# Altium footprint library WOB.PcbLib: 1 footprints
Each footprint in its own frame and in the unit in brackets; x right, y up, seen from the top. Pads: shape width x height; smd on the part's side, far side on the other; paste and mask are expansions set on the pad; w line width, h text height; cw(c..) or ccw(c..) is an arc to the next point about the centre after c.
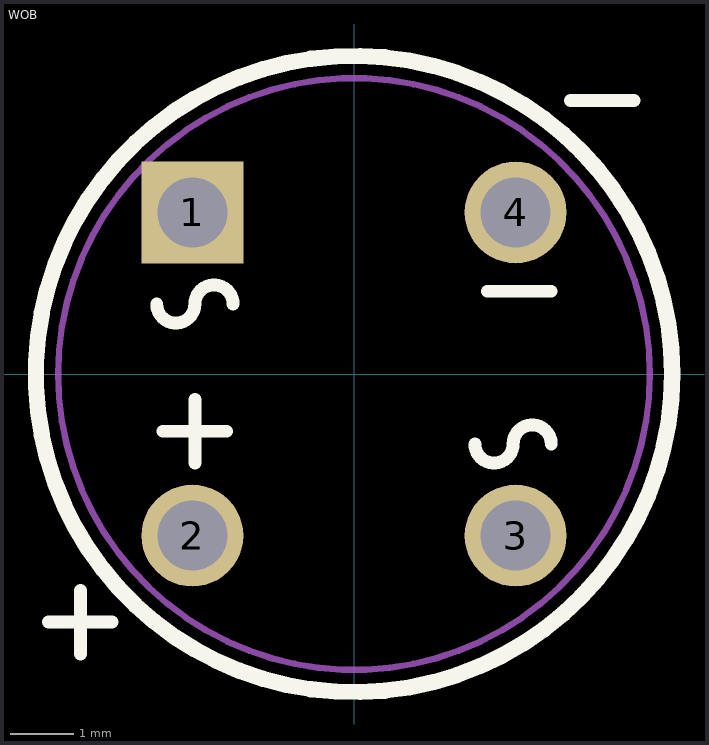
[diagram p0: the footprint, top view; thin cyan lines are the x and y axes]

## WOB [mm]
pads (4):
  rect 1.6x1.6 hole 1.1: 1(-2.54,2.54)
  round 1.6 hole 1.1: 2(-2.54,-2.54) 3(2.54,-2.54) 4(2.54,2.54)
Top Overlay:
  circle w0.254: c0,0 r5
  lines w0.203: -4.8,-3.9 -3.8,-3.9 ; -4.3,-4.4 -4.3,-3.4 ; -3.1,1.1 ccw(c-2.8,1.1) -2.5,1.1 cw(c-2.2,1.1) -1.9,1.1 ; -3,-0.9 -2,-0.9 ; -2.5,-1.4 -2.5,-0.4 ; 1.9,-1.1 ccw(c2.2,-1.1) 2.5,-1.1 cw(c2.8,-1.1) 3.1,-1.1 ; 2.1,1.3 3.1,1.3 ; 3.4,4.3 4.4,4.3
Mechanical 13:
  circle w0.1: c0,0 r4.65